# Altium footprint library con-deutsch_2.PCBLIB: 27 footprints (part 2 of 2)
Each footprint in its own frame and in the unit in brackets; x right, y up, seen from the top. Pads: shape width x height; smd on the part's side, far side on the other; paste and mask are expansions set on the pad; w line width, h text height; cw(c..) or ccw(c..) is an arc to the next point about the centre after c.
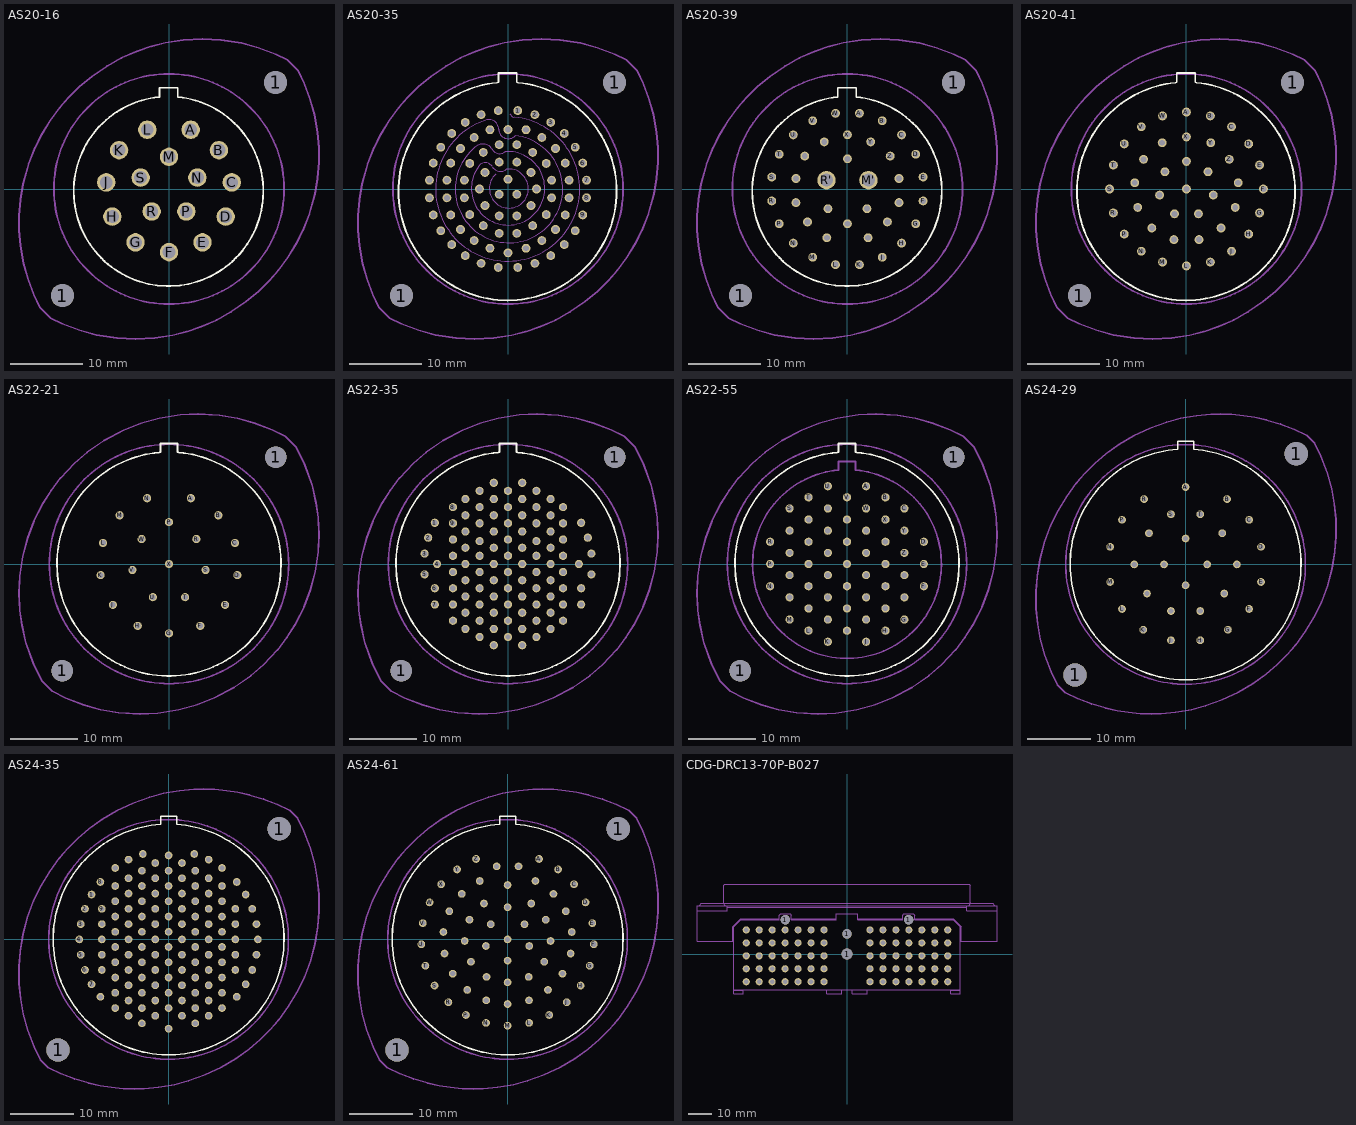
[diagram p1: the footprints below, top view; thin cyan lines are the x and y axes]

## AS20-16 [mil]
pads (18):
  round 125.98 hole 125.98 unplated: 1(-578.74,-578.74) 1(578.74,578.74)
  round 100 hole 70: A(118,322) B(271,211) C(341,36) D(308,-150) E(182,-290) F(0,-343) G(-182,-290) H(-308,-150) J(-341,36) K(-271,211) L(-118,322) M(0,175) N(154,62) P(94,-122) R(-94,-122) S(-154,62)
Top Overlay:
  lines w10: -52.5,500 ccw(c-2.5,-12.5) 47.5,500 47.5,550 -52.5,550 -52.5,500
Mechanical 22:
  circle w10: c0,0 r625.5
  lines w10: -815,-222.5 -815,-145 -807.5,-57.5 -792.5,27.5 -762.5,137.5 -727.5,225 -692.5,295 -645,372.5 -592.5,442.5 -545,497.5 -487.5,555 -417.5,612.5 -337.5,667.5 -257.5,712.5 -177.5,747.5 -97.5,775 -20,795 77.5,810 182.5,815 282.5,810 395,792.5 485,767.5 580,732.5 642.5,702.5 702.5,642.5 735,572.5 765,492.5 790,405 807.5,307.5 815,222.5 815,145 807.5,57.5 792.5,-27.5 762.5,-137.5 727.5,-225 692.5,-295 645,-372.5 592.5,-442.5 545,-497.5 487.5,-555 417.5,-612.5 337.5,-667.5 257.5,-712.5 177.5,-747.5 97.5,-775 20,-795 -77.5,-810 -182.5,-815 -282.5,-810 -395,-792.5 -485,-767.5 -580,-732.5 -642.5,-702.5 -702.5,-642.5 -735,-572.5 -765,-492.5 -790,-405 -807.5,-307.5 -815,-222.5
3D body "AS220-16SN-995F.STEP": height 1650, standoff -82.68, extent -838.39,-838.47 838.6,838.4

## AS20-35 [mil]
pads (81):
  round 125.98 hole 125.98 unplated: 1(-578.74,-578.74) 1(578.74,578.74)
  round 48 / inner round 60 / far side round 48 hole 32: 1(53,426) 2(146,404) 3(232,362) 4(306,302) 5(365,227) 6(406,141) 7(427,48) 8(427,-48) 9(406,-141) 10(365,-227) 11(306,-302) 12(232,-362) 13(146,-404) 14(53,-426) 15(-53,-426) 16(-146,-404) 17(-232,-362) 18(-306,-302) 19(-365,-227) 20(-406,-141) 21(-427,-48) 22(-427,48) 23(-406,141) 24(-365,227) 25(-306,302) 26(-232,362) 27(-146,404) 28(-53,426) 29(0,323) 30(98,322) 31(184,280) 32(258,220) 33(311,141) 34(332,48) 35(332,-48) 36(311,-141) 37(258,-220) 38(184,-280) 39(98,-322) 40(0,-347) 41(-98,-322) 42(-184,-280) 43(-258,-220) 44(-311,-141) 45(-332,-48) 46(-332,48) 47(-311,141) 48(-258,220) 49(-184,280) 50(-98,322) 51(-48,241) 52(48,241) 53(134,199) 54(208,139) 55(237,48) 56(237,-48) 57(208,-139) 58(134,-199) 59(48,-241) 60(-48,-241) 61(-134,-199) 62(-208,-139) 63(-237,-48) 64(-237,48) 65(-208,139) 66(-134,199) 67(-48,146) 68(48,146) 69(125,90) 70(155,0) 71(125,-90) 72(48,-146) 73(-48,-146) 74(-125,-90) 75(-155,0) 76(-125,90) 77(0,53) 78(48,-29) 79(-48,-29)
Top Overlay:
  lines w10: -60.05,577.42 ccw(c-2.5,-12.5) 55.05,577.42 ; -52.5,580 -52.5,630 47.5,630 47.5,580
Mechanical 8:
  lines w2: -85,120 ccw(c-42.29,145) -10,107.5 cw(c4.89,2.5) -67.5,80 ; -85,122.5 ccw(c-123.99,95) -150,135 ccw(c0.31,3.74) -17.5,202.5 ; -15,202.5 cw(c-44.83,241.25) -90,222.5 ccw(c-136.75,183.75) -165,237.5 ccw(c5.05,0) 40,290 cw(c1.81,325) -50,325 ccw(c-101.73,325) -115,375 ccw(c-1.75,0) 35,390 ; 10,410 ccw(c50,430) 30,390
Mechanical 22:
  circle w10: c0,0 r625.5
  lines w10: -815,-222.5 -815,-145 -807.5,-57.5 -792.5,27.5 -762.5,137.5 -727.5,225 -692.5,295 -645,372.5 -592.5,442.5 -545,497.5 -487.5,555 -417.5,612.5 -337.5,667.5 -257.5,712.5 -177.5,747.5 -97.5,775 -20,795 77.5,810 182.5,815 282.5,810 395,792.5 485,767.5 580,732.5 642.5,702.5 702.5,642.5 735,572.5 765,492.5 790,405 807.5,307.5 815,222.5 815,145 807.5,57.5 792.5,-27.5 762.5,-137.5 727.5,-225 692.5,-295 645,-372.5 592.5,-442.5 545,-497.5 487.5,-555 417.5,-612.5 337.5,-667.5 257.5,-712.5 177.5,-747.5 97.5,-775 20,-795 -77.5,-810 -182.5,-815 -282.5,-810 -395,-792.5 -485,-767.5 -580,-732.5 -642.5,-702.5 -702.5,-642.5 -735,-572.5 -765,-492.5 -790,-405 -807.5,-307.5 -815,-222.5

## AS20-39 [mil]
pads (41):
  round 125.98 hole 125.98 unplated: 1(-581.24,-578.74) 1(576.24,578.74)
  round 48 / inner round 60 / far side round 48 hole 32: A(65,411) A'(280,57) B(189,371) B'(280,-74) C(294,294) C'(217,-179) D(371,189) D'(112,-265) E(411,65) E'(-112,-265) F(411,-65) F'(-217,-179) G(371,-189) G'(-280,-74) H(294,-294) H'(-280,57) I'(-232,179) J(189,-371) J'(-126,256) K(65,-411) K'(0,164) L(-65,-411) M(-189,-371) N(-294,-294) N'(106,-107) P(-371,-189) P'(0,-189) Q'(-106,-107) R(-411,-65) S(-411,65) T(-371,189) U(-294,294) V(-189,371) W(-65,411) X(0,295) Y(126,256) Z(232,179)
  round 100 hole 70: M'(114,48) R'(-114,48)
Top Overlay:
  lines w10: -52.5,500 ccw(c-2.5,-12.5) 47.5,500 47.5,550 -52.5,550 -52.5,500
Mechanical 22:
  circle w10: c0,0 r625.5
  lines w10: -817.5,-222.5 -810,-307.5 -792.5,-405 -767.5,-492.5 -737.5,-572.5 -705,-642.5 -645,-702.5 -582.5,-732.5 -487.5,-767.5 -397.5,-792.5 -285,-810 -185,-815 -80,-810 17.5,-795 95,-775 175,-747.5 255,-712.5 335,-667.5 415,-612.5 485,-555 542.5,-497.5 590,-442.5 642.5,-372.5 690,-295 725,-225 760,-137.5 790,-27.5 805,57.5 812.5,145 812.5,222.5 805,307.5 787.5,405 762.5,492.5 732.5,572.5 700,642.5 640,702.5 577.5,732.5 482.5,767.5 392.5,792.5 280,810 180,815 75,810 -22.5,795 -100,775 -180,747.5 -260,712.5 -340,667.5 -420,612.5 -490,555 -547.5,497.5 -595,442.5 -647.5,372.5 -695,295 -730,225 -765,137.5 -795,27.5 -810,-57.5 -817.5,-145 -817.5,-222.5
3D body "AS220-39SN-995F.STEP": height 1650, standoff -82.68, extent -838.39,-838.47 838.6,838.4

## AS20-41 [mil]
pads (43):
  round 125.98 hole 125.98 unplated: 1(-581.24,-578.74) 1(576.24,578.74)
  round 48 / inner round 60 / far side round 48 hole 32: A(0,418) A'(281,34) B(130,397) B'(265,-100) C(245,338) C'(188,-212) D(338,245) D'(68,-275) E(397,130) E'(-68,-275) F(418,0) F'(-188,-212) G(397,-130) G'(-265,-100) H(338,-245) H'(-281,34) I'(-233,161) J(245,-338) J'(-132,251) K(130,-397) K'(0,150) L(0,-418) M(-130,-397) M'(117,94) N(-245,-338) N'(146,-33) P(-338,-245) P'(65,-135) Q'(-65,-135) R(-397,-130) R'(-146,-33) S(-418,0) S'(-117,94) T(-397,130) T'(0,0) U(-338,245) V(-245,338) W(-130,397) X(0,283) Y(132,251) Z(233,161)
Top Overlay:
  lines w10: -60.05,577.42 ccw(c-2.5,-12.5) 55.05,577.42 ; -52.5,580 -52.5,630 47.5,630 47.5,580
Mechanical 22:
  circle w10: c0,0 r625.5
  lines w10: -817.5,-222.5 -817.5,-145 -810,-57.5 -795,27.5 -765,137.5 -730,225 -695,295 -647.5,372.5 -595,442.5 -547.5,497.5 -490,555 -420,612.5 -340,667.5 -260,712.5 -180,747.5 -100,775 -22.5,795 75,810 180,815 280,810 392.5,792.5 482.5,767.5 577.5,732.5 640,702.5 700,642.5 732.5,572.5 762.5,492.5 787.5,405 805,307.5 812.5,222.5 812.5,145 805,57.5 790,-27.5 760,-137.5 725,-225 690,-295 642.5,-372.5 590,-442.5 542.5,-497.5 485,-555 415,-612.5 335,-667.5 255,-712.5 175,-747.5 95,-775 17.5,-795 -80,-810 -185,-815 -285,-810 -397.5,-792.5 -487.5,-767.5 -582.5,-732.5 -645,-702.5 -705,-642.5 -737.5,-572.5 -767.5,-492.5 -792.5,-405 -810,-307.5 -817.5,-222.5

## AS22-21 [mil]
pads (23):
  round 125.98 hole 125.98 unplated: 1(-625,-625) 1(625,625)
  round 48 / inner round 60 / far side round 48 hole 32: A(128,385) B(289,285) C(386,123) D(400,-65) E(328,-239) F(183,-362) G(0,-406) H(-183,-362) J(-328,-239) K(-400,-65) L(-386,123) M(-289,285) N(-128,385) P(0,245) R(160,146) S(214,-35) T(94,-194) U(-94,-194) V(-214,-35) W(-160,146) X(0,0)
Top Overlay:
  lines w10: -56.77,652.85 ccw(c0,0) 56.77,652.85 ; -50,655 -50,705 50,705 50,655
Mechanical 22:
  circle w10: c0,0 r700
  lines w10: -877.5,-170 -872.5,-270 -860,-357.5 -837.5,-460 -792.5,-585 -745,-682.5 -682.5,-745 -602.5,-785 -497.5,-825 -400,-852.5 -295,-870 -170,-877.5 -65,-872.5 57.5,-852.5 165,-822.5 265,-782.5 380,-722.5 480,-652.5 552.5,-590 635,-502.5 690,-430 740,-350 790,-252.5 827.5,-150 855,-45 872.5,72.5 877.5,170 872.5,270 860,357.5 837.5,460 792.5,585 745,682.5 680,747.5 602.5,785 497.5,825 400,852.5 295,870 170,877.5 65,872.5 -57.5,852.5 -165,822.5 -265,782.5 -380,722.5 -480,652.5 -552.5,590 -635,502.5 -690,430 -740,350 -790,252.5 -827.5,150 -855,45 -872.5,-72.5 -877.5,-170

## AS22-35 [mil]
pads (102):
  round 125.98 hole 125.98 unplated: 1(-625,-625) 1(625,625)
  round 48 / inner round 60 / far side round 48 hole 32: 1(-428,241) 2(-467,154) 3(-488,61) 4(-415,0) 5(-488,-61) 6(-428,-142) 7(-428,-237) 8(-322,333) 9(-322,238) 10(-322,143) 11(-322,48) 12(-322,-47) 13(-322,-142) 14(-322,-237) 15(-322,-332) 16(-249,380) 17(-249,285) 18(-249,190) 19(-249,95) 20(-249,0) 21(-249,-95) 22(-249,-190) 23(-249,-285) 24(-249,-380) 25(-166,428) 26(-166,333) 27(-166,238) 28(-166,134) 29(-166,48) 30(-166,-47) 31(-166,-142) 32(-166,-237) 33(-166,-332) 34(-166,-427) 35(-83,475) 36(-83,380) 37(-83,285) 38(-83,190) 39(-83,95) 40(-83,0) 41(-83,-95) 42(-83,-190) 43(-83,-285) 44(-83,-380) 45(-83,-475) 46(0,428) 47(0,333) 48(0,238) 49(0,143) 50(0,48) 51(0,-47) 52(0,-142) 53(0,-237) 54(0,-332) 55(0,-427) 56(83,475) 57(83,380) 58(83,285) 59(83,190) 60(83,95) 61(83,0) 62(83,-95) 63(83,-190) 64(83,-285) 65(83,-380) 66(83,-475) 67(166,428) 68(166,333) 69(166,238) 70(166,134) 71(166,48) 72(166,-47) 73(166,-142) 74(166,-237) 75(166,-332) 76(166,-427) 77(249,380) 78(249,285) 79(249,190) 80(249,95) 81(249,0) 82(249,-95) 83(249,-190) 84(249,-285) 85(249,-380) 86(322,333) 87(322,238) 88(322,143) 89(322,48) 90(322,-47) 91(322,-142) 92(322,-237) 93(322,-332) 94(428,241) 95(467,154) 96(488,61) 97(415,0) 98(488,-61) 99(428,-142) 100(428,-237)
Top Overlay:
  lines w10: -56.77,652.85 ccw(c0,0) 56.77,652.85 ; -50,655 -50,705 50,705 50,655
Mechanical 22:
  circle w10: c0,0 r700
  lines w10: -877.5,-170 -872.5,-270 -860,-357.5 -837.5,-460 -792.5,-585 -745,-682.5 -682.5,-745 -602.5,-785 -497.5,-825 -400,-852.5 -295,-870 -170,-877.5 -65,-872.5 57.5,-852.5 165,-822.5 265,-782.5 380,-722.5 480,-652.5 552.5,-590 635,-502.5 690,-430 740,-350 790,-252.5 827.5,-150 855,-45 872.5,72.5 877.5,170 872.5,270 860,357.5 837.5,460 792.5,585 745,682.5 680,747.5 602.5,785 497.5,825 400,852.5 295,870 170,877.5 65,872.5 -57.5,852.5 -165,822.5 -265,782.5 -380,722.5 -480,652.5 -552.5,590 -635,502.5 -690,430 -740,350 -790,252.5 -827.5,150 -855,45 -872.5,-72.5 -877.5,-170

## AS22-55 [mil]
pads (57):
  round 125.98 hole 125.98 unplated: 1(-625,-625) 1(625,625)
  round 48 / inner round 60 / far side round 48 hole 32: A(112,455) A'(336,-65) AA(-112,195) B(225,390) B'(336,-195) BB(0,130) C(336,325) C'(225,-260) CC(112,65) D(450,130) D'(112,-325) DD(112,-65) E(450,0) E'(0,-390) EE(0,-130) F(450,-130) F'(-112,-325) FF(-112,-65) G(336,-325) G'(-225,-260) GG(-112,65) H(225,-390) H'(-336,-195) HH(0,0) I'(-336,-65) J(112,-455) J'(-336,65) K(-112,-455) K'(-336,195) L(-225,-390) M(-336,-325) M'(-225,260) N(-450,-130) N'(-112,325) P(-450,0) P'(0,260) Q'(112,195) R(-450,130) R'(225,130) S(-336,325) S'(225,0) T(-225,390) T'(225,-130) U(-112,455) U'(112,-195) V(0,390) V'(0,-260) W(112,325) W'(-112,-195) X(225,260) X'(-225,-130) Y(336,195) Y'(-225,0) Z(336,65) Z'(-225,130)
Top Overlay:
  lines w10: -56.77,652.85 ccw(c0,0) 56.77,652.85 ; -50,655 -50,705 50,705 50,655
Mechanical 22:
  circle w10: c0,0 r700
  lines w10: -877.5,-170 -872.5,-270 -860,-357.5 -837.5,-460 -792.5,-585 -745,-682.5 -682.5,-745 -602.5,-785 -497.5,-825 -400,-852.5 -295,-870 -170,-877.5 -65,-872.5 57.5,-852.5 165,-822.5 265,-782.5 380,-722.5 480,-652.5 552.5,-590 635,-502.5 690,-430 740,-350 790,-252.5 827.5,-150 855,-45 872.5,72.5 877.5,170 872.5,270 860,357.5 837.5,460 792.5,585 745,682.5 680,747.5 602.5,785 497.5,825 400,852.5 295,870 170,877.5 65,872.5 -57.5,852.5 -165,822.5 -265,782.5 -380,722.5 -480,652.5 -552.5,590 -635,502.5 -690,430 -740,350 -790,252.5 -827.5,150 -855,45 -872.5,-72.5 -877.5,-170 ; -50,550 ccw(c0,0) 50,550 50,600 -50,600 -50,550

## AS24-29 [mil]
pads (31):
  round 145.67 hole 145.67 unplated: 1(-687.5,-687.5) 1(687.5,687.5)
  round 48 / inner round 60 / far side round 48 hole 32: A(0,481) A'(-319,0) B(258,406) B'(-228,194) C(395,277) C'(0,161) D(469,109) D'(134,0) E(469,-109) E'(0,-130) F(395,-277) F'(-134,0) G(263,-406) H(91,-472) J(-91,-472) K(-263,-406) L(-395,-277) M(-469,-109) N(-469,109) P(-395,277) R(-258,406) S(-91,312) T(91,312) U'(228,194) V'(319,0) W'(240,-181) X'(91,-290) Y'(-91,-290) Z'(-240,-181)
Top Overlay:
  lines w10: -50.07,715.97 ccw(c0,0) 50.07,715.97 ; -50,715 -50,765 50,765 50,715
Mechanical 22:
  circle w10: c0,0 r745
  lines w10: -930,-275 -920,-372.5 -902.5,-465 -875,-565 -835,-670 -797.5,-747.5 -747.5,-797.5 -667.5,-835 -585,-867.5 -500,-892.5 -425,-910 -357.5,-920 -282.5,-927.5 -210,-930 -152.5,-927.5 -62.5,-920 37.5,-902.5 122.5,-880 227.5,-842.5 327.5,-795 417.5,-742.5 500,-682.5 570,-622.5 630,-562.5 685,-500 745,-417.5 797.5,-330 845,-232.5 882.5,-130 910,-27.5 927.5,77.5 935,172.5 935,280 925,377.5 907.5,470 880,570 840,675 802.5,752.5 752.5,802.5 672.5,840 590,872.5 505,897.5 430,915 362.5,925 287.5,932.5 215,935 157.5,932.5 67.5,925 -32.5,907.5 -117.5,885 -222.5,847.5 -322.5,800 -412.5,747.5 -495,687.5 -565,627.5 -625,567.5 -680,505 -740,422.5 -792.5,335 -840,237.5 -877.5,135 -905,32.5 -922.5,-72.5 -930,-167.5 -930,-275

## AS24-35 [mil]
pads (130):
  round 145.67 hole 145.67 unplated: 1(-687.5,-687.5) 1(687.5,687.5)
  round 48 / inner round 60 / far side round 48 hole 32: 1(-479,279) 2(-520,190) 3(-546,95) 4(-555,0) 5(-546,-95) 6(-520,-190) 7(-479,-279) 8(-424,357) 9(-415,190) 10(-415,95) 11(-415,0) 12(-415,-95) 13(-415,-190) 14(-424,-357) 15(-332,444) 16(-332,332) 17(-332,237) 18(-332,142) 19(-332,47) 20(-332,-47) 21(-332,-142) 22(-332,-237) 23(-332,-332) 24(-332,-427) 25(-249,496) 26(-249,380) 27(-249,285) 28(-249,190) 29(-249,95) 30(-249,0) 31(-249,-95) 32(-249,-190) 33(-249,-285) 34(-249,-380) 35(-249,-475) 36(-160,531) 37(-166,427) 38(-166,332) 39(-166,237) 40(-166,142) 41(-166,47) 42(-166,-47) 43(-166,-142) 44(-166,-237) 45(-166,-332) 46(-166,-427) 47(-166,-522) 48(-83,475) 49(-83,380) 50(-83,285) 51(-83,190) 52(-83,95) 53(-83,0) 54(-83,-95) 55(-83,-190) 56(-83,-285) 57(-83,-380) 58(-83,-475) 59(0,522) 60(0,427) 61(0,332) 62(0,237) 63(0,142) 64(0,47) 65(0,-47) 66(0,-142) 67(0,-237) 68(0,-332) 69(0,-427) 70(0,-555) 71(83,475) 72(83,380) 73(83,285) 74(83,190) 75(83,95) 76(83,0) 77(83,-95) 78(83,-190) 79(83,-285) 80(83,-380) 81(83,-475) 82(160,531) 83(166,427) 84(166,332) 85(166,237) 86(166,142) 87(166,47) 88(166,-47) 89(166,-142) 90(166,-237) 91(166,-332) 92(166,-427) 93(166,-522) 94(249,496) 95(249,380) 96(249,285) 97(249,190) 98(249,95) 99(249,0) 100(249,-95) 101(249,-190) 102(249,-285) 103(249,-380) 104(249,-475) 105(332,444) 106(332,332) 107(332,237) 108(332,142) 109(332,47) 110(332,-47) 111(332,-142) 112(332,-237) 113(332,-332) 114(332,-427) 115(424,357) 116(415,190) 117(415,95) 118(415,0) 119(415,-95) 120(415,-190) 121(424,-357) 122(479,279) 123(520,190) 124(546,95) 125(555,0) 126(546,-95) 127(520,-190) 128(479,-279)
Top Overlay:
  lines w10: -50.07,715.97 ccw(c0,0) 50.07,715.97 ; -50,715 -50,765 50,765 50,715
Mechanical 22:
  circle w10: c0,0 r745
  lines w10: -930,-275 -930,-167.5 -922.5,-72.5 -905,32.5 -877.5,135 -840,237.5 -792.5,335 -740,422.5 -680,505 -625,567.5 -565,627.5 -495,687.5 -412.5,747.5 -322.5,800 -222.5,847.5 -117.5,885 -32.5,907.5 67.5,925 157.5,932.5 215,935 287.5,932.5 362.5,925 430,915 505,897.5 590,872.5 672.5,840 752.5,802.5 802.5,752.5 840,675 880,570 907.5,470 925,377.5 935,280 935,172.5 927.5,77.5 910,-27.5 882.5,-130 845,-232.5 797.5,-330 745,-417.5 685,-500 630,-562.5 570,-622.5 500,-682.5 417.5,-742.5 327.5,-795 227.5,-842.5 122.5,-880 37.5,-902.5 -62.5,-920 -152.5,-927.5 -210,-930 -282.5,-927.5 -357.5,-920 -425,-910 -500,-892.5 -585,-867.5 -667.5,-835 -747.5,-797.5 -797.5,-747.5 -835,-670 -875,-565 -902.5,-465 -920,-372.5 -930,-275

## AS24-61 [mil]
pads (63):
  round 145.67 hole 145.67 unplated: 1(-687.5,-687.5) 1(687.5,687.5)
  round 48 / inner round 60 / far side round 48 hole 32: A(196,500) A'(-68,454) AA(131,-233) B(314,435) B'(68,454) BB(0,-267) C(413,343) C'(173,363) CC(-131,-233) D(485,230) D'(285,283) DD(-228,-139) E(527,101) E'(362,175) EE(-267,-10) F(536,-30) F'(399,46) FF(-237,122) G(511,-164) G'(392,-88) GG(-147,223) H(454,-287) H'(341,-213) HH(0,200) I'(251,-314) J(368,-391) J'(133,-379) JJ(105,94) K(259,-470) K'(0,-402) KK(135,-41) L(134,-519) LL(0,-132) M(0,-537) M'(-133,-379) MM(-135,-41) N(-134,-519) N'(-251,-314) NN(-105,94) P(-259,-470) P'(-341,-213) PP(0,0) Q'(-392,-88) R(-368,-391) R'(-399,46) S(-454,-287) S'(-362,175) T(-511,-164) T'(-285,283) U(-536,-30) U'(-173,363) V(-527,101) V'(0,338) W(-485,230) W'(147,223) X(-413,343) X'(237,122) Y(-314,435) Y'(267,-10) Z(-196,500) Z'(228,-139)
Top Overlay:
  lines w10: -50.07,715.97 ccw(c0,0) 50.07,715.97 ; -50,715 -50,765 50,765 50,715
Mechanical 22:
  circle w10: c0,0 r745
  lines w10: -930,-275 -930,-167.5 -922.5,-72.5 -905,32.5 -877.5,135 -840,237.5 -792.5,335 -740,422.5 -680,505 -625,567.5 -565,627.5 -495,687.5 -412.5,747.5 -322.5,800 -222.5,847.5 -117.5,885 -32.5,907.5 67.5,925 157.5,932.5 215,935 287.5,932.5 362.5,925 430,915 505,897.5 590,872.5 672.5,840 752.5,802.5 802.5,752.5 840,675 880,570 907.5,470 925,377.5 935,280 935,172.5 927.5,77.5 910,-27.5 882.5,-130 845,-232.5 797.5,-330 745,-417.5 685,-500 630,-562.5 570,-622.5 500,-682.5 417.5,-742.5 327.5,-795 227.5,-842.5 122.5,-880 37.5,-902.5 -62.5,-920 -152.5,-927.5 -210,-930 -282.5,-927.5 -357.5,-920 -425,-910 -500,-892.5 -585,-867.5 -667.5,-835 -747.5,-797.5 -797.5,-747.5 -835,-670 -875,-565 -902.5,-465 -920,-372.5 -930,-275

## CDG-DRC13-70P-B027 [mm]
pads (74):
  round 4 hole 4 unplated: 1(-26.1,14.5) 1(0,8.5) 1(26.1,14.5)
  round 4.6 hole 4.6 unplated: 1(0,0)
  round 3 / inner round 1.524 / far side round 3 hole 2: 1(42.649,-11.747) 2(37.162,-11.747) 3(31.676,-11.747) 4(26.189,-11.747) 5(20.702,-11.747) 6(15.216,-11.747) 7(9.729,-11.747) 8(-9.729,-11.747) 9(-15.216,-11.747) 10(-20.702,-11.747) 11(-26.189,-11.747) 12(-31.676,-11.747) 13(-37.162,-11.747) 14(-42.649,-11.747) 15(42.649,-6.26) 16(37.162,-6.26) 17(31.676,-6.26) 18(26.189,-6.26) 19(20.702,-6.26) 20(15.216,-6.26) 21(9.729,-6.26) 22(-9.729,-6.26) 23(-15.216,-6.26) 24(-20.702,-6.26) 25(-26.189,-6.26) 26(-31.676,-6.26) 27(-37.162,-6.26) 28(-42.649,-6.26) 29(42.649,-0.773) 30(37.162,-0.773) 31(31.676,-0.773) 32(26.189,-0.773) 33(20.702,-0.773) 34(15.216,-0.773) 35(9.729,-0.773) 36(-9.729,-0.773) 37(-15.216,-0.773) 38(-20.702,-0.773) 39(-26.189,-0.773) 40(-31.676,-0.773) 41(-37.162,-0.773) 42(-42.649,-0.773) 43(42.649,4.713) 44(37.162,4.713) 45(31.676,4.713) 46(26.189,4.713) 47(20.702,4.713) 48(15.216,4.713) 49(9.729,4.713) 50(-9.729,4.713) 51(-15.216,4.713) 52(-20.702,4.713) 53(-26.189,4.713) 54(-31.676,4.713) 55(-37.162,4.713) 56(-42.649,4.713) 57(42.649,10.2) 58(37.162,10.2) 59(31.676,10.2) 60(26.189,10.2) 61(20.702,10.2) 62(15.216,10.2) 63(9.729,10.2) 64(-9.729,10.2) 65(-15.216,10.2) 66(-20.702,10.2) 67(-26.189,10.2) 68(-31.676,10.2) 69(-37.162,10.2) 70(-42.649,10.2)
Mechanical 22:
  lines w0.203: -63.5,8.8 -63.5,5.3 ; -62.4,20.4 -62.4,20.6 -61.6,21.4 -52.4,21.4 ; -52.15,21.4 -52.15,29 -51.65,29.5 -40.15,29.5 40.15,29.5 51.65,29.5 52.15,29 52.15,21.4 ; -51.66,20.4 -51.66,20.6 -52.4,21.4 ; -47.7,-15.1 47.7,-15.1 ; -43.9,-15.1 -43.9,-15.3 ; -28.6,14.9 -45,14.9 -48.4,11.5 -48.4,5.3 ; -23.6,14.9 -4.45,14.9 ; -8.5,-15.1 -8.5,-16.8 -2.3,-16.8 -2.3,-15.1 ; 2.3,-15.1 2.3,-16.8 8.5,-16.8 8.5,-15.1 ; 23.6,14.9 4.45,14.9 ; 28.6,14.9 45,14.9 48.4,11.5 48.4,5.3 ; 43.9,-15.1 43.9,-15.3 ; 51.66,20.4 51.66,20.6 cw(c52.417,20.641) 52.4,21.4 ; 62.4,20.4 62.4,20.6 61.6,21.4 52.4,21.4 ; 63.5,8.8 63.5,5.3 ; -63.5,5.3 -57.5,5.3 -48.4,5.3 ; -63.5,5.3 -63.5,18.3 ; -63.5,18.3 -57.5,18.3 ; -63.5,18.3 -57.5,18.3 ; -63.5,18.3 -63.5,20.4 -57.5,20.4 -50.75,20.4 ; -57.5,18.3 -50.75,18.3 ; -57.5,18.3 -50.75,18.3 ; -52.4,21.4 52.4,21.4 ; -50.75,18.3 -50.75,19.8 50.75,19.8 50.75,18.3 ; -50.75,18.3 -50.75,20.4 ; -50.75,20.4 50.75,20.4 ; -48.4,5.3 -48,5.3 ; -48,-15.3 -48,5.3 ; -48,-15.3 -48,-16.8 -43.9,-16.8 -43.9,-15.3 ; -48,-15.3 -43.9,-15.3 ; -48,5.3 -48,11.5 -45,14.5 -28.6,14.5 -28.6,16.5 -28.1,17 -24.1,17 -23.6,16.5 -23.6,14.5 -4.45,14.5 -4.45,14.9 ; -4.45,14.9 -4.45,17.1 4.45,17.1 4.45,14.9 ; 4.45,14.9 4.45,14.5 23.6,14.5 23.6,16.5 24.1,17 28.1,17 28.6,16.5 28.6,14.5 45,14.5 48,11.5 48,5.3 ; 43.9,-15.3 43.9,-16.8 48,-16.8 48,-15.3 ; 43.9,-15.3 48,-15.3 ; 48,-15.3 48,5.3 ; 48,5.3 48.4,5.3 ; 48.4,5.3 57.5,5.3 63.5,5.3 ; 50.75,18.3 57.5,18.3 ; 50.75,18.3 57.5,18.3 ; 50.75,18.3 50.75,20.4 ; 50.75,20.4 57.5,20.4 63.5,20.4 63.5,18.3 ; 57.5,18.3 63.5,18.3 ; 57.5,18.3 63.5,18.3 ; 63.5,5.3 63.5,18.3